# Altium footprint library S7CAS_LIB2023.PcbLib: 100 footprints (part 2 of 7)
Each footprint in its own frame and in the unit in brackets; x right, y up, seen from the top. Pads: shape width x height; smd on the part's side, far side on the other; paste and mask are expansions set on the pad; w line width, h text height; cw(c..) or ccw(c..) is an arc to the next point about the centre after c.
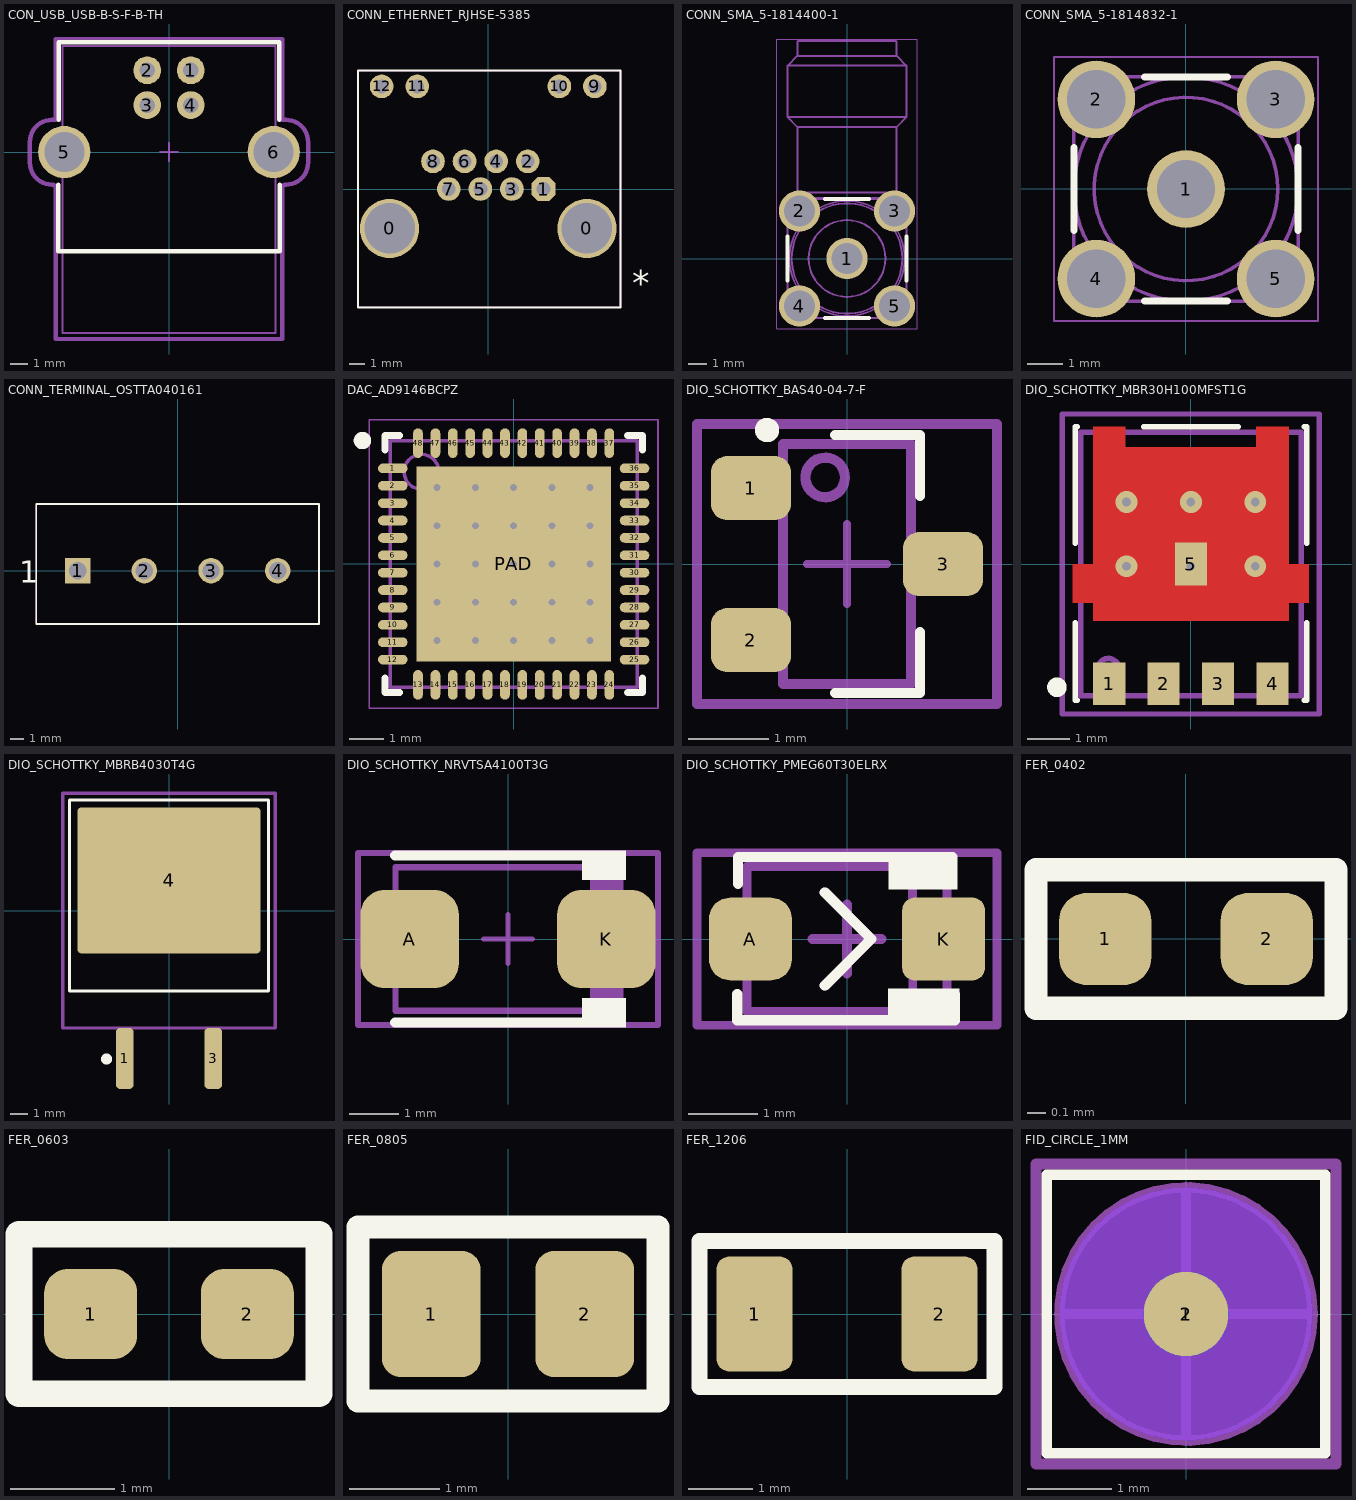
[diagram p1: the footprints below, top view; thin cyan lines are the x and y axes]

## CON_USB_USB-B-S-F-B-TH [mm]
pads (6):
  round 1.6 hole 0.9 mask+0.07: 1(1.25,4.7) 2(-1.25,4.7) 3(-1.25,2.7) 4(1.25,2.7)
  round 3 hole 2.3 mask+0.07: 5(-6.02,0) 6(6.02,0)
Top Overlay:
  lines w0.254: -6.375,-1.875 -6.375,-5.7 6.375,-5.7 6.375,-1.875 ; -6.35,1.85 -6.35,6.325 6.35,6.325 6.35,1.85
Mechanical 1:
  lines w0.127: -6.125,-10.4 6.125,-10.4 6.125,6.1 -6.125,6.1 -6.125,-10.4
Mechanical 15:
  lines w0.127: -0.5,0 0.5,0 ; 0,-0.5 0,0.5
  lines w0.254: -8,-0.605 ccw(c-6.73,-0.605) -6.73,-1.875 cw(c-6.73,-2.105) -6.5,-2.105 -6.5,-10.75 6.5,-10.75 6.5,-2.105 cw(c6.73,-2.105) 6.73,-1.875 ccw(c6.73,-0.605) 8,-0.605 8,0.58 ccw(c6.73,0.58) 6.73,1.85 6.5,1.85 6.5,6.5 -6.5,6.5 -6.5,1.85 -6.73,1.85 ccw(c-6.73,0.58) -8,0.58 -8,-0.605
3D body "USB-B-S-F-B-TH.stp": height 10.9, standoff -3.54, extent -7.25,-10.4 7.25,6.1

## CONN_ETHERNET_RJHSE-5385 [mil] "Ethernet connector with LEDs"
height 520.08
pads (14):
  round 150 hole 128: 0(-250,-100) 0(250,-100)
  oct 60x60 hole 35: 1(140,0)
  round 60 hole 35: 2(100,70) 3(60,0) 4(20,70) 5(-20,0) 6(-60,70) 7(-100,0) 8(-140,70) 9(270,260) 10(180,260) 11(-180,260) 12(-270,260)
Top Overlay:
  lines w5: -330,-300 -330,300 335,300 335,-300 -330,-300
  text "*" at 365,-270 h65
Mechanical 13:
  lines w3.94: -330,-300 -330,300 335,300 335,-300 -330,-300
Mechanical 15:
  lines w3.94: -330,-300 -330,300 335,300 335,-300 -330,-300
3D body "M-RJHSE-538X-REVT1.STEP": height 596.99, standoff -144.91, extent -328.7,-324.96 333.91,312.96

## CONN_SMA_5-1814400-1 [mm] "SMA Right Angle Jack, 14.8x6.35x9.6mm"
height 9.6
pads (5):
  round 2.2 hole 1.65: 1(0,0) 2(-2.54,2.54) 3(2.54,2.54) 4(-2.54,-2.54) 5(2.54,-2.54)
Top Overlay:
  lines w0.2: -3.175,-1.181 -3.175,1.181 ; -1.181,-3.175 1.181,-3.175 ; -1.181,3.175 1.181,3.175 ; 3.175,-1.181 3.175,1.181
Mechanical 13:
  circle w0.1: c0,0 r3.075
  circle w0.1: c0,0 r0.635
  circle w0.1: c0,0 r2.95
  circle w0.1: c0,0 r2.05
  lines w0.05: -2.9,3.275 2.9,3.275
  lines w0.1: -3.175,2.9 cw(c0,0) -2.9,3.175 -2.9,3.275 -2.65,3.525 ; -3.175,2.905 -3.175,-2.9 ccw(c0,0) -2.9,-3.175 2.9,-3.175 ccw(c0,0) 3.175,-2.9 3.175,2.9 ccw(c0,0) 2.9,3.175 ; -2.905,3.175 2.9,3.175 ; -3.175,7.55 -3.175,10.3 ; -3.175,7.55 -2.65,7.025 ; -3.175,7.55 3.175,7.55 ; -3.175,10.3 -2.65,10.825 ; -3.175,10.3 3.175,10.3 ; -2.65,3.525 -2.65,7.025 ; -2.65,3.525 2.65,3.525 ; -2.65,7.025 2.65,7.025 ; -2.65,10.825 -2.65,11.575 -2.6,11.625 -2.375,11.625 2.375,11.625 2.6,11.625 2.65,11.575 2.65,10.825 ; -2.65,10.825 2.65,10.825 ; 2.65,3.525 2.9,3.275 2.9,3.175 ; 2.65,3.525 2.65,7.025 ; 2.65,7.025 3.175,7.55 ; 2.65,10.825 3.175,10.3 ; 3.175,7.55 3.175,10.3 ; -3.04,-3.04 -3.04,-2.04 -2.04,-2.04 -2.04,-3.04 -3.04,-3.04 ; -3.04,2.04 -2.04,2.04 -2.04,3.04 -3.04,3.04 -3.04,2.04 ; 2.04,-3.04 2.04,-2.04 3.04,-2.04 3.04,-3.04 2.04,-3.04 ; 2.04,2.04 3.04,2.04 3.04,3.04 2.04,3.04 2.04,2.04
Mechanical 15:
  lines w0.05: -3.74,-3.74 3.74,-3.74 3.74,11.725 -3.74,11.725 -3.74,-3.74
  lines w0.1: -0.5,0 0.5,0 ; 0,-0.5 0,0.5
3D body "c-5-1814400-1-d-3d.stp": height 10.47, standoff -3.06, extent -3.152,-3.163 3.175,11.037

## CONN_SMA_5-1814832-1 [mm] "SMA Straight Jack, 6.35x6.35x9.5mm"
height 9.5
pads (5):
  round 2.2 hole 1.65: 1(0,0) 2(-2.54,2.54) 3(2.54,2.54) 4(-2.54,-2.54) 5(2.54,-2.54)
Top Overlay:
  lines w0.2: -3.175,-1.181 -3.175,1.181 ; -1.181,-3.175 1.181,-3.175 ; -1.181,3.175 1.181,3.175 ; 3.175,-1.181 3.175,1.181
Mechanical 13:
  circle w0.1: c0,0 r0.635
  circle w0.1: c0,0 r2.6
  circle w0.1: c0,0 r3.175
  lines w0.1: -3.19,-2.808 ccw(c0,0) -2.808,-3.191 ; -3.19,2.808 cw(c0,0) -2.808,3.19 ; -3.175,-2.794 -3.175,2.794 ; -3.04,-2.97 -3.04,-2.04 -2.04,-2.04 -2.04,-3.04 -2.97,-3.04 ; -3.04,2.97 -3.04,2.04 -2.04,2.04 -2.04,3.04 -2.97,3.04 ; -2.794,-3.175 2.794,-3.175 ; -2.794,3.175 2.794,3.175 ; -0.1,-0.627 -0.1,0.627 ; 0.1,-0.627 0.1,0.627 ; 2.808,-3.191 ccw(c0,0) 3.191,-2.808 ; 2.808,3.19 cw(c0,0) 3.191,2.808 ; 2.97,3.04 2.04,3.04 2.04,2.04 3.04,2.04 3.04,2.97 ; 2.97,-3.04 2.04,-3.04 2.04,-2.04 3.04,-2.04 3.04,-2.97 ; 3.175,-2.794 3.175,2.794
Mechanical 15:
  lines w0.05: -3.74,-3.74 3.74,-3.74 3.74,3.74 -3.74,3.74 -3.74,-3.74
  lines w0.1: -0.635,0 0.508,0 ; 0,-0.508 0,0.635
3D body "32k101-400l5.stp": height 9.5, standoff -4, extent -3.175,-3.175 3.175,3.175

## CONN_TERMINAL_OSTTA040161 [mm] "4-pins terminal block"
height 12.6
pads (4):
  rect 1.905x1.905 hole 1.3 mask+0.12: 1(-7.5,0)
  round 1.905 hole 1.3 mask+0.12: 2(-2.5,0) 3(2.5,0) 4(7.5,0)
Top Overlay:
  lines w0.127: -10.6,-4 10.6,-4 10.6,5 -10.6,5 -10.6,-4
  text "1" at -11.9,-0.9 h1.65
Mechanical 1:
  text "INSERT WIRES ON THIS SIDE" at -9.8,-5.2 h0.8
Mechanical 13:
  lines w0.1: -10.6,-4 10.6,-4 10.6,5 -10.6,5 -10.6,-4
Mechanical 15:
  lines w0.1: -7.775,0 -7.225,0 ; -7.5,-0.275 -7.5,0.275 ; -10.6,-4 10.6,-4 10.6,5 -10.6,5 -10.6,-4
3D body "c-1776244-4-o-3d.stp": height 10.08, standoff -3.42, extent -10.668,-3.302 10.492,4.198

## DAC_AD9146BCPZ [mm] "QFN, 48-Leads, Body 7x7mm, Pitch 0.5mm, Thermal Pad 5.6x5.6mm, IPC Medium Density"
height 0.8
pads (49):
  oval 0.85x0.28 smd mask+0.07: 1(-3.475,2.75) 2(-3.475,2.25) 3(-3.475,1.75) 4(-3.475,1.25) 5(-3.475,0.75) 6(-3.475,0.25) 7(-3.475,-0.25) 8(-3.475,-0.75) 9(-3.475,-1.25) 10(-3.475,-1.75) 11(-3.475,-2.25) 12(-3.475,-2.75) 25(3.475,-2.75) 26(3.475,-2.25) 27(3.475,-1.75) 28(3.475,-1.25) 29(3.475,-0.75) 30(3.475,-0.25) 31(3.475,0.25) 32(3.475,0.75) 33(3.475,1.25) 34(3.475,1.75) 35(3.475,2.25) 36(3.475,2.75)
  oval 0.28x0.85 smd mask+0.07: 13(-2.75,-3.475) 14(-2.25,-3.475) 15(-1.75,-3.475) 16(-1.25,-3.475) 17(-0.75,-3.475) 18(-0.25,-3.475) 19(0.25,-3.475) 20(0.75,-3.475) 21(1.25,-3.475) 22(1.75,-3.475) 23(2.25,-3.475) 24(2.75,-3.475) 37(2.75,3.475) 38(2.25,3.475) 39(1.75,3.475) 40(1.25,3.475) 41(0.75,3.475) 42(0.25,3.475) 43(-0.25,3.475) 44(-0.75,3.475) 45(-1.25,3.475) 46(-1.75,3.475) 47(-2.25,3.475) 48(-2.75,3.475)
  rect 5.6x5.6 smd mask+0.07: PAD(0,0)
via 2.2,-2.2 diameter 0.5 hole 0.2
via 1.1,-2.2 diameter 0.5 hole 0.2
via 0,-2.2 diameter 0.5 hole 0.2
via -1.1,-2.2 diameter 0.5 hole 0.2
via -2.2,-2.2 diameter 0.5 hole 0.2
via 2.2,-1.1 diameter 0.5 hole 0.2
via 1.1,-1.1 diameter 0.5 hole 0.2
via 0,-1.1 diameter 0.5 hole 0.2
via -1.1,-1.1 diameter 0.5 hole 0.2
via -2.2,-1.1 diameter 0.5 hole 0.2
via 2.2,0 diameter 0.5 hole 0.2
via 1.1,0 diameter 0.5 hole 0.2
via 0,0 diameter 0.5 hole 0.2
via -1.1,0 diameter 0.5 hole 0.2
via -2.2,0 diameter 0.5 hole 0.2
via 2.2,1.1 diameter 0.5 hole 0.2
via 1.1,1.1 diameter 0.5 hole 0.2
via 0,1.1 diameter 0.5 hole 0.2
via -1.1,1.1 diameter 0.5 hole 0.2
via -2.2,1.1 diameter 0.5 hole 0.2
via 2.2,2.2 diameter 0.5 hole 0.2
via 1.1,2.2 diameter 0.5 hole 0.2
via 0,2.2 diameter 0.5 hole 0.2
via -1.1,2.2 diameter 0.5 hole 0.2
via -2.2,2.2 diameter 0.5 hole 0.2
Top Overlay:
  circle w0.25: c-4.35,3.55 r0.125
  lines w0.2: -3.7,-3.275 -3.7,-3.7 -3.275,-3.7 ; -3.7,3.275 -3.7,3.7 -3.275,3.7 ; 3.275,-3.7 3.7,-3.7 3.7,-3.275 ; 3.275,3.7 3.7,3.7 3.7,3.275
Mechanical 13:
  circle w0.1: c-2.65,2.65 r0.5
  lines w0.1: -3.55,-3.55 3.55,-3.55 3.55,3.55 -3.55,3.55 -3.55,-3.55
Mechanical 15:
  lines w0.05: -4.15,-4.15 4.15,-4.15 4.15,4.15 -4.15,4.15 -4.15,-4.15
  lines w0.1: -0.5,0 0.5,0 ; 0,-0.5 0,0.5
3D body: height 0.8, standoff 0, extent -3.55,-3.55 3.55,3.55

## DIO_SCHOTTKY_BAS40-04-7-F [mm]
pads (3):
  rrect50% 1x0.8 smd paste-0.025 mask+0.07: 1(-1.2,0.95) 2(-1.2,-0.95) 3(1.2,0)
Top Overlay:
  circle w0.152: c-1,1.675 r0.076
  lines w0.127: -0.15,-1.613 0.914,-1.613 0.914,-0.85 ; -0.15,1.613 0.914,1.613 0.914,0.85
Mechanical 1:
  circle w0.127: c-0.273,1.083 r0.247
  lines w0.127: -0.8,-1.5 0.8,-1.5 0.8,1.5 -0.8,1.5 -0.8,-1.5
Mechanical 15:
  lines w0.1: -0.5,0 0.5,0 ; 0,-0.5 0,0.5
  lines w0.127: -1.875,-1.75 1.875,-1.75 1.875,1.75 -1.875,1.75 -1.875,-1.75
3D body "DIO_SCHOTTKY_SDM40E20LS-7-F.step": height 1.1, standoff 0, extent -1.25,-1.5 1.25,1.5

## DIO_SCHOTTKY_MBR30H100MFST1G [mm]
pads (5):
  rect 0.75x1 smd paste-0.025 mask+0.07: 1(-1.905,-2.795) 2(-0.635,-2.795) 3(0.635,-2.795) 4(1.905,-2.795)
  rect 0.75x1 smd paste-1 mask+0: 5(0,0)
via 1.5,-0.052 diameter 0.508 hole 0.203
via 1.5,1.448 diameter 0.508 hole 0.203
via -1.5,1.448 diameter 0.508 hole 0.203
via -1.5,-0.052 diameter 0.508 hole 0.203
via 0,-0.052 diameter 0.508 hole 0.203
via 0,1.448 diameter 0.508 hole 0.203
Top Layer:
  region: -2.28,-1.33 2.28,-1.33 2.28,-0.905 2.755,-0.905 2.755,0 2.28,0 2.28,3.2 1.53,3.2 1.53,2.725 -1.53,2.725 -1.53,3.2 -2.28,3.2 -2.28,0 -2.755,0 -2.755,-0.905 -2.28,-0.905
Top Overlay:
  circle w0.25: c-3.125,-2.875 r0.103
  lines w0.127: -2.7,-1.37 -2.7,-3.175 -2.65,-3.175 ; -2.7,0.481 -2.7,3.2 -2.65,3.2 ; -1.1,3.2 1.1,3.2 ; 2.65,-3.175 2.7,-3.175 2.7,-1.37 ; 2.65,3.2 2.7,3.2 2.7,0.481
Top Paste:
  rectangle: -2.2,-1.203 -0.2,2.597
  rectangle: 0.2,-1.203 2.2,2.597
Mechanical 1:
  circle w0.127: c-1.925,-2.45 r0.246
  lines w0.127: -0.5,0 0.5,0 ; 0,-0.5 0,0.5 ; -2.575,-3.075 -2.575,3.075 2.575,3.075 2.575,-3.075 -2.575,-3.075
Mechanical 15:
  lines w0.127: -0.5,0 0.5,0 ; 0,-0.5 0,0.5 ; -3,-3.5 -3,3.5 3,3.5 3,-3.5 -3,-3.5
3D body "User Library-DFN5x6_SO8FL.STEP": height 1.13, standoff 0, extent -2.575,-3.075 2.575,3.075

## DIO_SCHOTTKY_MBRB4030T4G [mm]
pads (3):
  rrect50% 1.016x3.504 smd paste+0 mask+0.102: 1(-2.54,-8.475) 3(2.54,-8.475)
  rrect5% 10.49x8.38 smd paste-5.245 mask+0.102: 4(0,1.737)
Top Overlay:
  circle w0.381: c-3.581,-8.509 r0.127
  lines w0.175: -5.715,-4.6 -5.715,6.35 5.715,6.35 5.715,-4.6 -5.715,-4.6
Top Paste:
  region: 3.1,3.087 1.3,3.087 1.3,0.487 3.1,0.487
  region: 5.2,3.087 3.4,3.087 3.4,0.487 5.2,0.487
  region: 5.2,5.9 3.4,5.9 3.4,3.3 5.2,3.3
  region: 3.1,5.9 1.3,5.9 1.3,3.3 3.1,3.3
  region: 5.2,0.187 3.4,0.187 3.4,-2.413 5.2,-2.413
  region: 3.1,0.187 1.3,0.187 1.3,-2.413 3.1,-2.413
  rectangle: -1,-2.413 1,0.187
  rectangle: -3.1,-2.413 -1.3,0.187
  rectangle: -5.2,-2.413 -3.4,0.187
  rectangle: -1,3.3 1,5.9
  rectangle: -3.1,3.3 -1.3,5.9
  rectangle: -5.2,3.3 -3.4,5.9
  rectangle: -5.2,0.487 -3.4,3.087
  rectangle: -3.1,0.487 -1.3,3.087
  rectangle: -1,0.487 1,3.087
Mechanical 15:
  lines w0.175: -0.5,0 0,0 ; 0,-0.5 0,0 ; 0,0.5 0,0 ; 0.5,0 0,0 ; -6.096,-6.722 6.096,-6.722 6.096,6.74 -6.096,6.74 -6.096,-6.722
3D body "D2PAK.step": height 4.98, standoff -0.03, extent -5.054,-9.458 5.106,5.806

## DIO_SCHOTTKY_NRVTSA4100T3G [mm]
pads (2):
  rrect50% 2x2 smd paste-0.025 mask+0.07: A(-2,0) K(2,0)
Top Overlay:
  rectangle: 1.5,1.2 2.4,1.8
  rectangle: 1.5,-1.8 2.4,-1.2
  lines w0.2: -2.3,-1.7 2.3,-1.7 ; -2.3,1.7 2.3,1.7
Mechanical 1:
  region: 2.285,1.46 1.67,1.46 1.67,-1.46 2.285,-1.46
  lines w0.127: -2.285,-1.46 -2.285,1.46 2.285,1.46 2.285,-1.46 -2.285,-1.46
Mechanical 15:
  lines w0.1: -0.5,0 0.5,0 ; 0,-0.5 0,0.5
  lines w0.127: -3.05,-1.75 3.05,-1.75 3.05,1.75 -3.05,1.75 -3.05,-1.75
3D body "DIO_NRVTSA4100T3G.step": height 2.2, standoff 0, extent -2.505,-1.46 2.505,1.46

## DIO_SCHOTTKY_PMEG60T30ELRX [mm]
pads (2):
  rrect50% 1.2x1.2 smd paste-0.05 mask+0.07: A(-1.4,0)
  rrect30% 1.2x1.2 smd paste-0.05 mask+0.07: K(1.4,0)
Top Overlay:
  rectangle: 0.6,0.72 1.6,1.2
  rectangle: 0.597,-1.2 1.63,-0.72
  lines w0.15: -1.59,-0.8 -1.59,-1.18 1.56,-1.18 1.56,-0.8 ; -1.58,0.8 -1.58,1.19 1.53,1.19 1.53,0.8 ; -0.325,-0.675 0.35,0 -0.325,0.675
Mechanical 1:
  lines w0.127: 0.95,0.98 0.954,-0.97 ; -1.45,-1.05 1.45,-1.05 1.45,1.05 -1.45,1.05 -1.45,-1.05
  lines w0.15: -0.325,-0.675 0.35,0 -0.325,0.675
Mechanical 15:
  lines w0.127: -2.175,-1.25 2.175,-1.25 2.175,1.25 -2.175,1.25 -2.175,-1.25
  lines w0.15: -0.5,0 0.5,0 ; 0,-0.5 0,0.5
3D body "User Library-SOD123W-1.step": height 1.13, standoff 0.02, extent -1.85,-0.95 1.85,0.95

## FER_0402 [mil]
pads (2):
  rrect60% 20x20 smd: 1(-17.5,0) 2(17.5,0)
Top Overlay:
  lines w5: -32.5,-15 -32.5,15 32.5,15 32.5,-15 -32.5,-15
3D body "Ferrite0402.stp": height 20.08, standoff 0.39, extent -19.69,-10 19.69,9.69

## FER_0603 [mil]
pads (2):
  rrect53% 35x34 smd: 1(-29.5,0) 2(29.5,0)
Top Overlay:
  lines w10: -56.5,-30 -56.5,30 56.5,30 56.5,-30 -56.5,-30
3D body "User Library-FB_1608-1.STEP": height 31.5, standoff 0, extent -31.5,-16 31.5,15.5

## FER_0805 [mil]
pads (2):
  rrect37% 43x55 smd: 1(-33.5,0) 2(33.5,0)
Top Overlay:
  lines w10: -65.5,-38 65.5,-38 65.5,38 -65.5,38 -65.5,-38
3D body "User Library-FB_2012-1.STEP": height 33.46, standoff 0, extent -40.36,-24.6 38.37,24.61

## FER_1206 [mil]
pads (2):
  rrect34% 47x71 smd: 1(-57,0) 2(57,0)
Top Overlay:
  lines w10: -91,-45 -91,45 91,45 91,-45 -91,-45
3D body "ferrite1206.step": height 51.22, standoff -0.04, extent -62,-30.5 63.99,32.5

## FID_CIRCLE_1MM [mm]
pads (2):
  round 1 smd paste-1 mask+1: 1(0,0)
  round 1 smd far side paste-1 mask+1: 2(0,0)
Top Layer keep-out:
  circle w1: c0,0 r1
Bottom Layer keep-out:
  circle w1: c0,0 r1
Top Overlay:
  lines w0.127: -1.651,-1.651 -1.651,1.651 1.651,1.651 1.651,-1.651 -1.651,-1.651
Bottom Overlay:
  lines w0.127: -1.651,-1.651 -1.651,1.651 1.651,1.651 1.651,-1.651 -1.651,-1.651
  text ".Designator" at 1.7,2.1 h0.66
Mechanical 1:
  circle w0.127: c0,0 r1.5
  lines w0.127: -1.5,0 1.5,0 ; 0,-1.5 0,1.5
Mechanical 2:
  circle w0.127: c0,0 r1.5
  lines w0.127: -1.5,0 1.5,0 ; 0,-1.5 0,1.5
Mechanical 15:
  lines w0.127: -0.508,0 0.508,0 ; 0,-0.508 0,0.508 ; -1.778,-1.778 1.778,-1.778 1.778,1.778 -1.778,1.778 -1.778,-1.778
Mechanical 16:
  lines w0.127: -0.508,0 0.508,0 ; 0,-0.508 0,0.508 ; -1.778,-1.778 1.778,-1.778 1.778,1.778 -1.778,1.778 -1.778,-1.778